# Altium footprint library led.PcbLib: 3 footprints
Each footprint in its own frame and in the unit in brackets; x right, y up, seen from the top. Pads: shape width x height; smd on the part's side, far side on the other; paste and mask are expansions set on the pad; w line width, h text height; cw(c..) or ccw(c..) is an arc to the next point about the centre after c.
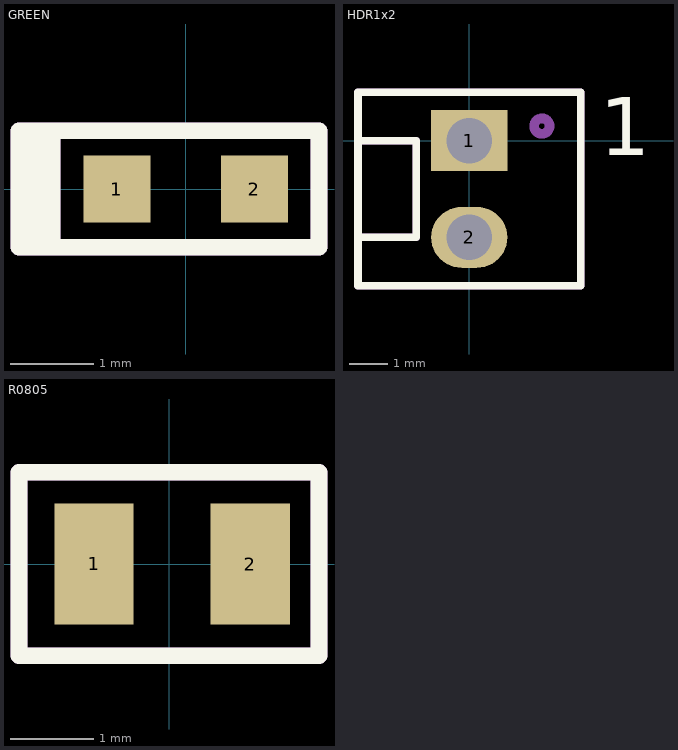
[diagram p0: the footprints below, top view; thin cyan lines are the x and y axes]

## GREEN [mm]
pads (2):
  rect 0.8x0.8 smd: 1(-0.825,0) 2(0.825,0)
Top Overlay:
  rectangle: -2,-0.7 -1.5,0.7
  lines w0.2: -2,-0.7 1.6,-0.7 1.6,0.7 -2,0.7 -2,-0.7
Mechanical 2 (Mech29):
  rectangle: -2,-0.7 -1.5,0.7
  lines w0.2: -2,-0.7 -2,0.7 1.6,0.7 1.6,-0.7 -2,-0.7
3D body "SMD LED 0603.step": height 0.4, standoff 0.01, extent -0.8,-0.4 0.8,0.4

## HDR1x2 [mm]
pads (2):
  rect 2x1.6 hole 1.2: 1(0,0)
  oval 2x1.6 hole 1.2: 2(0,-2.54)
Top Overlay:
  lines w0.2: -2.921,-2.54 -1.651,-2.54 -1.397,-2.54 -1.397,0 -1.651,0 -2.921,0 ; -2.921,-3.81 2.921,-3.81 2.921,1.27 -2.921,1.27 -2.921,-3.81
  text "1" at 3.429,-0.381 h1.52
Mechanical 2 (Mech29):
  circle w0.254: c1.905,0.381 r0.203
  lines w0.2: -2.921,-2.54 -1.651,-2.54 -1.397,-2.54 -1.397,0 -1.651,0 -2.921,0 ; -2.921,-3.81 -2.921,1.27 2.921,1.27 2.921,-3.81 -2.921,-3.81
  text "'.Designator'1" at -1.397,-1.524 h1.2
3D body "022292021.stp": height 11.07, standoff -4.19, extent -2.9,-3.81 2.9,1.27

## R0805 [mm]
pads (2):
  rect 0.95x1.45 smd: 1(-0.9,0) 2(0.975,0)
Top Overlay:
  lines w0.2: -1.8,-1.1 -1.8,1.1 1.8,1.1 1.8,-1.1 -1.8,-1.1
Mechanical 2 (Mech29):
  lines w0.2: -1.8,-1.1 1.8,-1.1 1.8,1.1 -1.8,1.1 -1.8,-1.1
  text "'.Designator''.Designator'" at -1.6,-0.9 h0.7
3D body "CR2012-0805.step": height 0.61, standoff 0.01, extent -1,-0.625 1,0.625